# Altium schematic symbol library Quoc_Bao.SchLib: 16 symbols
Pins are listed as number, name and electrical type; pins without a type are passive.

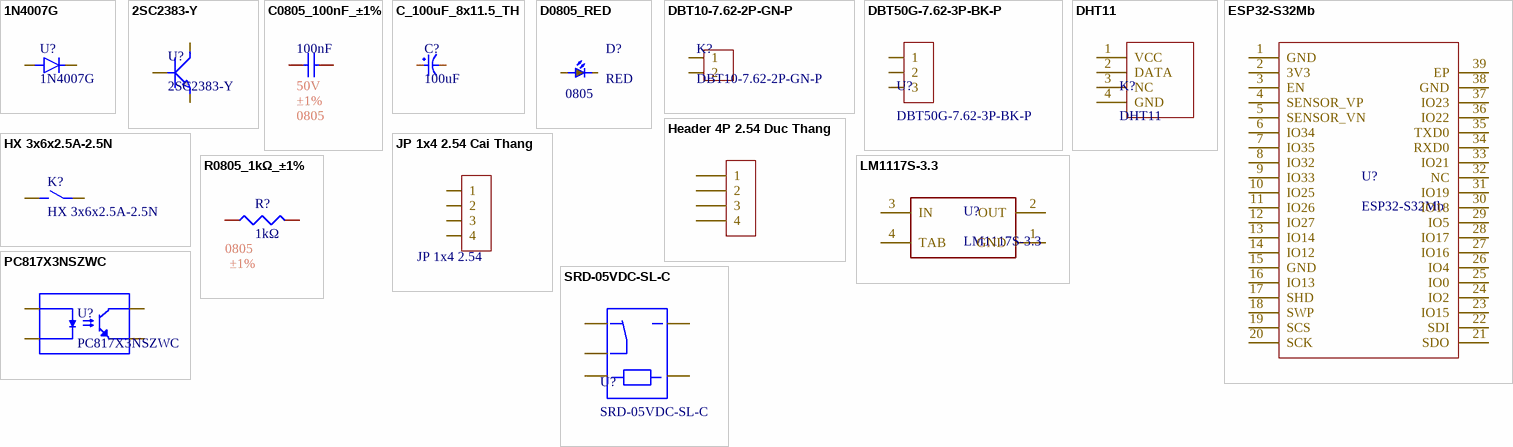
[diagram p0: symbols 1N4007G to SRD-05VDC-SL-C]

## 1N4007G
designator U?
30A 1kV 930mV@1A 1A DO-41 Single Diodes RoHS; Manufacturer: onsemi; Key Attributes: DIODE STANDARD 1kV 1A DO-41; Mfr. Part #: 1N4007G; LCSC Part #: C232439; Package: DO-41; Link: https://www.lcsc.com/product-detail/C232439.html?s_z=n_1N4007
footprint 1N4007G (30A 1kV 930mV@1A 1A DO-41 Single Diodes RoHS)
pins: 1 C, 2 A

## 2SC2383-Y
designator U?
900mW 160V 1A NPN TO-92LM Single Bipolar Transistors RoHS; Manufacturer: BLUE ROCKET; Key Attributes: TRANS NPN 160V 1A TO-92LM; Mfr. Part #: 2SC2383-Y; LCSC Part #: C2844058; Package: TO-92LM; Link: https://www.lcsc.com/product-detail/C2844058.html?s_z=n_c2383
footprint 2SC2383-Y (900mW 160V 1A NPN TO-92LM Single Bipolar Transistors RoHS)
pins: 1, 2, 3

## C0805_100nF_±1%
designator C?, comment 100nF  Tolerance: ±1%  Package: 0805  Voltage Rating: 50V
50V 10pF NP0 ±1% 0402 Multilayer Ceramic Capacitors MLCC - SMD/SMT ROHS; Manufacturer: YAGEO; Mfr. Part #: CC0402FRNPO9BN100; LCSC Part #: C513681; Link: https://www.lcsc.com/product-detail/C513681.html?s_z=n_capital%2520yageo%252010pF%25200402; Capacitance: 100nF
footprint C0805
pins: 1, 2

## C_100uF_8x11.5_TH
designator C?, comment 100uF
3.5mm 100uF 50V ±20% Through Hole,D8xL11.5mm Aluminum Electrolytic Capacitors RoHS; Manufacturer: Rubycon; Mfr. Part #: 50YXF100MEFC8X11.5; Key Attributes: CAP ALUM 100uF ±20% 50V TH; Pin Spacing: 2mm; LCSC Part #: C88728; Package: Through Hole,D5xL11mm; Tolerance: ±20%; Voltage Rating: 50V; Capacitance: 100uF; Link: https://www.lcsc.com/product-detail/C88728.html?s_z=n_capital%2520100u%2520hole
footprint C_TH_8x11.5
pins: 1, 2

## D0805_RED
designator D?, comment RED  Package: 0805
25mcd~40mcd Water Clear -40℃~+85℃ 624nm Red 120° 60mW 0402 LED Indication - Discrete ROHS; Manufacturer: XINGLIGHT; Mfr. Part #: XL-1005UGC; Voltage - Forward(Vf): 3V; LCSC Part #: C965793; Power(Watts): 60mW; Link: https://www.lcsc.com/product-detail/C136765.html?s_z=n_LED%25200402%2520RED; Illumination Color: RED
footprint LED0805
pins: 1, 2

## DBT10-7.62-2P-GN-P
designator K?
1x2P Side Mount 2-Side 7.62mm 1 2 24A -40℃~+105℃ Green 14~22 Straight Pin Through Hole,P=7.62mm Barrier Blocks RoHS; Manufacturer: DORABO; Key Attributes: TERM BLK BARRIER 2CIRCUIT 7.62mm; Mfr. Part #: DBT10-7.62-2P-GN-P; LCSC Part #: C395930; Package: Through Hole,P=7.62mm; Link: https://www.lcsc.com/product-detail/C395930.html?s_z=n_BARRIER%2520STRIP
footprint DBT10-7.62-2P-GN-P (1x2P Side Mount 2-Side 7.62mm 1 2 24A -40?~+105? Green 14~22 Straight Pin Through Hole,P=7.62mm Barrier Blocks RoHS)
pins: 1, 2

## DBT50G-7.62-3P-BK-P
designator U?
1x3P Side Mount With Cover Plate 7.62mm 1 3 -40℃~+105℃ 20A Black 12~22 Straight Pin Through Hole,P=7.62mm Barrier Blocks RoHS; Manufacturer: DORABO; Key Attributes: TERM BLK BARRIER 3CIRCUIT 7.62mm; Mfr. Part #: DBT50G-7.62-3P-BK-P; LCSC Part #: C496128; Package: Through Hole,P=7.62mm; Link: https://www.lcsc.com/product-detail/C496128.html?s_z=n_Barrier%2520blocks
footprint DBT50G-7.62-3P-BK-P (1x3P Side Mount With Cover Plate 7.62mm 1 3 -40?~+105? 20A Black 12~22 Straight Pin Through Hole,P=7.62mm Barrier Blocks RoHS)
pins: 1, 2, 3

## DHT11
designator K?
±5%RH -20℃~+60℃ 5%RH~95%RH SIP-4 Humidity, Moisture Sensors RoHS; Manufacturer: Aosong; Mfr. Part #: DHT11; LCSC Part #: C117051; Package: SIP-4; Link: https://www.lcsc.com/product-detail/C117051.html?s_z=n_dht11
footprint DHT11 (±5%RH -20?~+60? 5%RH~95%RH SIP-4 Humidity, Moisture Sensors RoHS)
pins: 1 VCC, 2 DATA, 3 NC, 4 GND

## ESP32-S32Mb
designator U?
2.4GHz ESP32 Chip On-board PCB Antenna -90dBm RF Transceiver Modules and Modems RoHS; Manufacturer: Ai-Thinker; Key Attributes: ESP32-S Wi-Fi + BT SoC Module; Mfr. Part #: ESP32-S32Mb; LCSC Part #: C2764096; Package: SMD; Link: https://www.lcsc.com/product-detail/C2764096.html?s_z=n_esp32
footprint ESP32-S32Mb (2.4GHz ESP32 Chip On-board PCB Antenna -90dBm RF Transceiver Modules and Modems RoHS)
pins: 1 GND, 2 3V3, 3 EN, 4 SENSOR_VP, 5 SENSOR_VN, 6 IO34, 7 IO35, 8 IO32, 9 IO33, 10 IO25, 11 IO26, 12 IO27, 13 IO14, 14 IO12, 15 GND, 16 IO13, 17 SHD, 18 SWP, 19 SCS, 20 SCK, 21 SDO, 22 SDI, 23 IO15, 24 IO2, 25 IO0, 26 IO4, 27 IO16, 28 IO17, 29 IO5, 30 IO18, 31 IO19, 32 NC, 33 IO21, 34 RXD0, 35 TXD0, 36 IO22, 37 IO23, 38 GND, 39 EP

## Header 4P 2.54 Duc Thang
designator H?
Cắm; Ten_Linh_Kien: Header 4P XH2.54-4P Đực Thẳng; Don_Vi: Con; Ma_Hang: MH001285; Chung_Loai: Cắm
footprint Header DT 4P_2.54
pins: 1, 2, 3, 4

## HX 3x6x2.5A-2.5N
designator K?
Without Bracket 6mm 12V 3.6mm Square Button No SPST 50mA SMD,6x3mm Tactile Switches RoHS; Manufacturer: hanxia; Key Attributes: SWITCH TACTILE SPST 250gf SMD; Mfr. Part #: HX 3x6x2.5A-2.5N; LCSC Part #: C36498960; Package: SMD,6x3mm; Link: https://www.lcsc.com/product-detail/C36498960.html?s_z=n_button
footprint HX 3x6x2.5A-2.5N (Without Bracket 6mm 12V 3.6mm Square Button No SPST 50mA SMD,6x3mm Tactile Switches RoHS)
pins: 1, 2

## JP 1x4 2.54 Cai Thang
designator JP?, comment JP 1x4 2.54
Cắm; Ten_Linh_Kien: Jump Đơn Cái 2.54MM 1x20P Thẳng; Don_Vi: Con; Ma_Hang: MH004006; Ghi_Chu: *; Kieu_Chan: *; Chung_Loai: Cắm
footprint JP 1X4 DT (4 pins, 1 row, straight, gold plating)
pins: 1, 2, 3, 4

## LM1117S-3.3
designator U?
75dB@(120Hz) 1A Fixed 3.3V Positive 12V SOT-223-3 Voltage Regulators - Linear, Low Drop Out (LDO) Regulators ROHS; Manufacturer: HTC; Noise: 100uV; Mfr. Part #: LM1117S-3.3; LCSC Part #: C126027; Package: SOT-223-3; Output Current: 1A; Voltage - Supply: 12V; Link: https://www.lcsc.com/product-detail/C126027.html?s_z=n_lm1117-33
footprint AMS1117-3.3
pins: 1 GND, 2 OUT, 3 IN, 4 TAB

## PC817X3NSZWC
designator U?
50mA 100mV@20mA,1mA 80V 6V DC DIP-4 Transistor, Photovoltaic Output Optoisolators RoHS; Manufacturer: SHARP; Key Attributes: OPTOISOLATOR 5kV 1CH TRANS DIP-4; Mfr. Part #: PC817X3NSZWC; LCSC Part #: C39832427; Package: DIP-4; Link: https://www.lcsc.com/product-detail/C39832427.html?s_z=n_pc817
footprint PC817X3NSZWC (50mA 100mV@20mA,1mA 80V 6V DC DIP-4 Transistor, Photovoltaic Output Optoisolators RoHS)
pins: 1 ANODE, 2 CATHODE, 3 EMITTER, 4 COLLECTOR

## R0805_1kΩ_±1%
designator R?, comment 1kΩ  Tolerance: ±1%  Package: 0805
62.5mW Thick Film Resistor 50V ±1% ±200ppm/℃ 10Ω 0402 Chip Resistor - Surface Mount ROHS; Manufacturer: YAGEO; Mfr. Part #: RC0805FR-0710RL; LCSC Part #: C138066; Resistance: 1kΩ; Link: https://www.lcsc.com/product-detail/C138066.html?s_z=n_resistor%25200402%252010R
footprint R0805
pins: 1, 2

## SRD-05VDC-SL-C
designator U?
250V@AC 5V 15A Through Hole,19.2x15.6mm Power Relays RoHS; Manufacturer: Songle Relay; Key Attributes: Single group transfer type relay; Mfr. Part #: SRD-05VDC-SL-C; LCSC Part #: C35449; Package: Through Hole,19.2x15.6mm; Link: https://www.lcsc.com/product-detail/C35449.html?s_z=n_relay
footprint SRD-05VDC-SL-C (250V@AC 5V 15A Through Hole,19.2x15.6mm Power Relays RoHS)
pins: 1, 2, 3, 4, 5